# Altium footprint library 2021-06-09_18-06-45.PcbLib: 3 footprints
Each footprint in its own frame and in the unit in brackets; x right, y up, seen from the top. Pads: shape width x height; smd on the part's side, far side on the other; paste and mask are expansions set on the pad; w line width, h text height; cw(c..) or ccw(c..) is an arc to the next point about the centre after c.
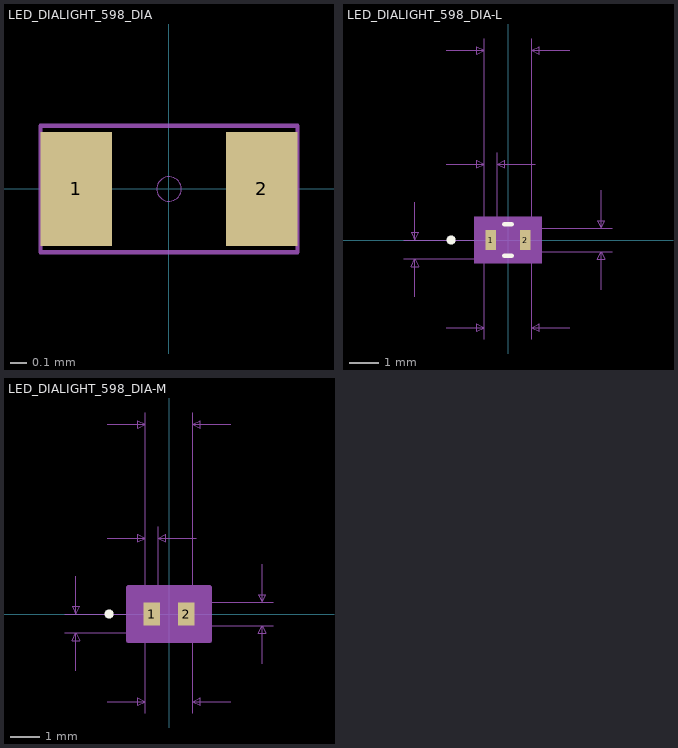
[diagram p0: the footprints below, top view; thin cyan lines are the x and y axes]

## LED_DIALIGHT_598_DIA [mil]
pads (2):
  rect 17.5x28 smd paste+0 mask+0: 1(-22.75,0) 2(22.75,0)
Mechanical 13:
  circle w0: c0,0 r3
  lines w1: -31.5,-15.5 -31.5,15.5 31.5,15.5 31.5,-15.5 -31.5,-15.5
3D body: height 10, standoff 0, extent 0,0 10,10
3D body "LED_DIALIGHT_598_DIA.step": height 28.11, standoff 0, extent -31.49,-15.51 31.5,15.52

## LED_DIALIGHT_598_DIA-L [mil]
pads (2):
  rect 13.56x26.03 smd paste+0 mask+0: 1(-22.75,0) 2(22.75,0)
Top Overlay:
  circle w6: c-75.03,0 r3
  lines w6: -5.22,-20.5 5.22,-20.5 ; -5.22,20.5 5.22,20.5
Mechanical 5:
  region: 44.53,-30.5 -44.53,-30.5 -44.53,30.5 44.53,30.5
Mechanical 7:
  lines w1: -137.75,-25 -22.75,-25 ; -137.75,0 -22.75,0 ; -122.75,-75 -122.75,-25 ; -122.75,50 -122.75,0 ; -81.5,-115.5 -31.5,-115.5 ; -81.5,100 -31.5,100 ; -81.5,250 -31.5,250 ; -31.5,-130.5 -31.5,-15.5 ; -31.5,115 -31.5,0 -31.5,265 ; -14,0 -14,115 ; 31.5,-130.5 31.5,-15.5 137.75,-15.5 ; 31.5,0 31.5,265 ; 31.5,15.5 137.75,15.5 ; 36,100 -14,100 ; 81.5,-115.5 31.5,-115.5 ; 81.5,250 31.5,250 ; 122.75,-65.5 122.75,-15.5 ; 122.75,65.5 122.75,15.5 ; -122.75,-25 -127.75,-35 -117.75,-35 -122.75,-25 ; -122.75,0 -127.75,10 -117.75,10 -122.75,0 ; -31.5,-115.5 -41.5,-110.5 -41.5,-120.5 -31.5,-115.5 ; -31.5,100 -41.5,105 -41.5,95 -31.5,100 ; -31.5,250 -41.5,255 -41.5,245 -31.5,250 ; -14,100 -4,105 -4,95 -14,100 ; 31.5,-115.5 41.5,-110.5 41.5,-120.5 31.5,-115.5 ; 31.5,250 41.5,255 41.5,245 31.5,250 ; 122.75,-15.5 117.75,-25.5 127.75,-25.5 122.75,-15.5 ; 122.75,15.5 117.75,25.5 127.75,25.5 122.75,15.5
  text "Default Padstyle: r34_66" at -300,-385.5 h50
  text "Alt 1 Padstyle: b152_229h76" at -337.5,-565.5 h50
  text "Alt 2 Padstyle: b229_152h76" at -337.5,-625.5 h50
  text "0.063in/1.6mm" at -81.25,270 h25
  text "0.018in/0.444mm" at -116.5,120 h25
  text "0.025in/0.635mm" at -330.25,-25 h25
  text "0.031in/0.787mm" at 142.75,-12.5 h25
  text "0.063in/1.6mm" at -81.25,-160.5 h25
Mechanical 13:
  circle w0: c0,0 r3
  lines w1: -31.5,-15.5 31.5,-15.5 31.5,15.5 -31.5,15.5 -31.5,-15.5
Mechanical 15:
  region: -35.5,-17.02 -35.5,17.02 -35.5,19.5 35.5,19.5 35.5,17.02 35.5,-17.02 35.5,-19.5 -35.5,-19.5
  lines w6: -35.5,-19.5 -35.5,-17.02 -35.5,17.02 -35.5,19.5 35.5,19.5 35.5,17.02 35.5,-17.02 35.5,-19.5 -35.5,-19.5
3D body: height 10, standoff 0, extent 0,0 10,10

## LED_DIALIGHT_598_DIA-M [mil]
pads (2):
  rect 21.44x29.97 smd paste+0 mask+0: 1(-22.75,0) 2(22.75,0)
Top Overlay:
  circle w6: c-78.97,0 r3
Mechanical 5:
  region: 48.47,-30.5 -48.47,-30.5 -48.47,30.5 48.47,30.5
Mechanical 7:
  lines w1: -137.75,-25 -22.75,-25 ; -137.75,0 -22.75,0 ; -122.75,-75 -122.75,-25 ; -122.75,50 -122.75,0 ; -81.5,-115.5 -31.5,-115.5 ; -81.5,100 -31.5,100 ; -81.5,250 -31.5,250 ; -31.5,-130.5 -31.5,-15.5 ; -31.5,115 -31.5,0 -31.5,265 ; -14,0 -14,115 ; 31.5,-130.5 31.5,-15.5 137.75,-15.5 ; 31.5,0 31.5,265 ; 31.5,15.5 137.75,15.5 ; 36,100 -14,100 ; 81.5,-115.5 31.5,-115.5 ; 81.5,250 31.5,250 ; 122.75,-65.5 122.75,-15.5 ; 122.75,65.5 122.75,15.5 ; -122.75,-25 -117.75,-35 -127.75,-35 -122.75,-25 ; -122.75,0 -117.75,10 -127.75,10 -122.75,0 ; -31.5,-115.5 -41.5,-120.5 -41.5,-110.5 -31.5,-115.5 ; -31.5,100 -41.5,95 -41.5,105 -31.5,100 ; -31.5,250 -41.5,245 -41.5,255 -31.5,250 ; -14,100 -4,95 -4,105 -14,100 ; 31.5,-115.5 41.5,-120.5 41.5,-110.5 31.5,-115.5 ; 31.5,250 41.5,245 41.5,255 31.5,250 ; 122.75,-15.5 127.75,-25.5 117.75,-25.5 122.75,-15.5 ; 122.75,15.5 127.75,25.5 117.75,25.5 122.75,15.5
  text "0.063in/1.6mm" at -81.25,-160.5 h25
  text "0.031in/0.787mm" at 142.75,-12.5 h25
  text "0.025in/0.635mm" at -330.25,-25 h25
  text "0.018in/0.444mm" at -116.5,120 h25
  text "0.063in/1.6mm" at -81.25,270 h25
  text "Alt 2 Padstyle: b229_152h76" at -337.5,-625.5 h50
  text "Alt 1 Padstyle: b152_229h76" at -337.5,-565.5 h50
  text "Default Padstyle: r54_76" at -300,-385.5 h50
Mechanical 13:
  circle w0: c0,0 r3
  lines w1: -31.5,-15.5 -31.5,15.5 31.5,15.5 31.5,-15.5 -31.5,-15.5
Mechanical 15:
  region: -51.5,-34.98 -53.47,-34.98 -53.47,34.98 -51.5,34.98 -51.5,35.5 51.5,35.5 51.5,34.98 53.47,34.98 53.47,-34.98 51.5,-34.98 51.5,-35.5 -51.5,-35.5
  lines w6: -53.47,-34.98 -51.5,-34.98 -51.5,-35.5 51.5,-35.5 51.5,-34.98 53.47,-34.98 53.47,34.98 51.5,34.98 51.5,35.5 -51.5,35.5 -51.5,34.98 -53.47,34.98 -53.47,-34.98
3D body: height 10, standoff 0, extent 0,0 10,10